# Altium schematic symbol library Regulator chips.SchLib: 2 symbols
Pins are listed as number, name and electrical type; pins without a type are passive.

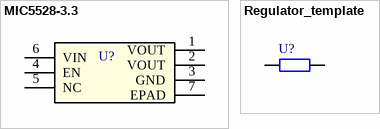
[diagram p0: symbols MIC5528-3.3 to Regulator_template]

## MIC5528-3.3
designator U?
5V to 3.3V 500mA; Mfr Part #: MIC5528-3.3YMT-TR; # of Pins: 2; Case/Package: 6-UFDFN Exposed Pad; Manufacturer: *; Supplier 1: Digikey; Supplier 1 Part #: 576-4766-1-ND; Supplier 2: Mouser; Supplier 2 Part #: *; Supplier 3: *; Supplier 3 Part #: *; Iout: 500mA; Vin: 5V; Vout: 3.3V
footprint TDFN6_1P2X1P2_MCH
pins: 1 VOUT (power), 2 VOUT (power), 3 GND (power), 4 EN (power), 5 NC, 6 VIN (power), 7 EPAD

## Regulator_template
designator U?
# of Pins: 2; Mfr Part #: *; Case/Package: *; Manufacturer: *; Supplier 1: Digikey; Supplier 1 Part #: *; Supplier 2: Mouser; Supplier 2 Part #: *; Supplier 3: *; Supplier 3 Part #: *
footprint 0805_Res (0805 SMD Resistor)
footprint 0603_Res (0603 SMD Resistor)
pins: 1, 2